# EAGLE library part 72309-8034BLF (library 2024-12-09_09-07-56_Library)
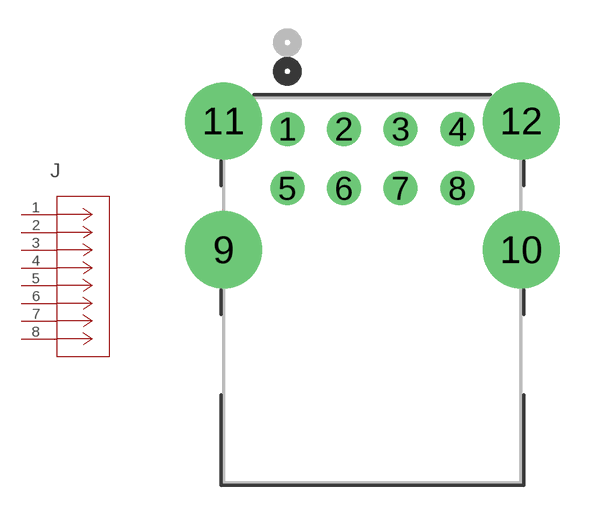
[diagram p0: symbol with the pads of CONN8_8034BLF_AMP; footprint CONN8_8034BLF_AMP]

Designator prefix J

## 72309-8034BLFCONN8_8034BLF_AMP (Copyright: Copyright (C) 2024 Ultra Librarian. All rights reserved.; Manufacturer_Part_Number: 72309-8034BLF; Mfr_Name: Amphenol ICC)  [CONN8_8034BLF_AMP]
1  1  pas
2  2  pas
3  3  pas
4  4  pas
5  5  pas
6  6  pas
7  7  pas
8  8  pas

## Footprint CONN8_8034BLF_AMP (pad centres in mm)
drill 0.991 pad 1.499 round: 1 0,0; 2 2.5,0; 3 5,0; 4 7.5,0; 5 0,-2.62; 6 2.5,-2.62; 7 5,-2.62; 8 7.5,-2.62
drill 2.388 pad 2.896 round: 9 -2.82,-5.33; 10 10.32,-5.33; 11 -2.82,0.35; 12 10.32,0.35